# EAGLE library part 662024235922 (library Wuerth_Elektronik_eiCan_08_Micro_Power_Connectors)
WR-MPC3 3.00mm Male Dual Row SMT Vertical Header with Through Hole Retention Clip, 24 Pins
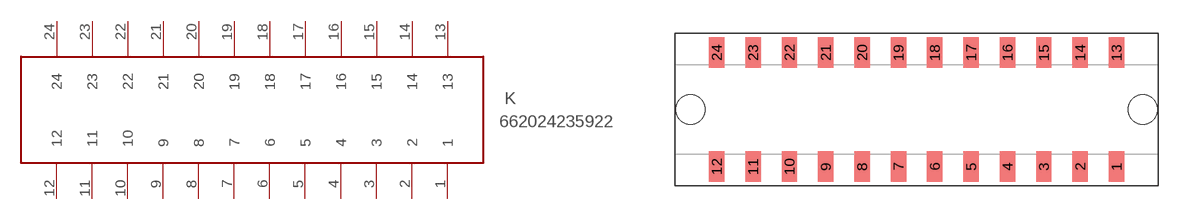
[diagram p19: symbol with the pads of 662024235922; footprint 662024235922]

Designator prefix K

## 662024235922  [662024235922]
1  1
2  2
3  3
4  4
5  5
6  6
7  7
8  8
9  9
10  10
11  11
12  12
13  13
14  14
15  15
16  16
17  17
18  18
19  19
20  20
21  21
22  22
23  23
24  24

## Footprint 662024235922 (pad centres in mm)
WR-MPC3 3.00mm Male Dual Row SMT Vertical Header with Through Hole Retention Clip, 24 Pins
smd 1.27 x 2.54: 1 0,-4.7; 2 -3,-4.7; 3 -6,-4.7; 4 -9,-4.7; 5 -12,-4.7; 6 -15,-4.7; 7 -18,-4.7; 8 -21,-4.7; 9 -24,-4.7; 10 -27,-4.7; 11 -30,-4.7; 12 -33,-4.7; 13 0,4.7; 14 -3,4.7; 15 -6,4.7; 16 -9,4.7; 17 -12,4.7; 18 -15,4.7; 19 -18,4.7; 20 -21,4.7; 21 -24,4.7; 22 -27,4.7; 23 -30,4.7; 24 -33,4.7
hole 2.41 at 2.16,0
hole 2.41 at -35.16,0